# Altium footprint library Diodes.PcbLib: 5 footprints
Each footprint in its own frame and in the unit in brackets; x right, y up, seen from the top. Pads: shape width x height; smd on the part's side, far side on the other; paste and mask are expansions set on the pad; w line width, h text height; cw(c..) or ccw(c..) is an arc to the next point about the centre after c.
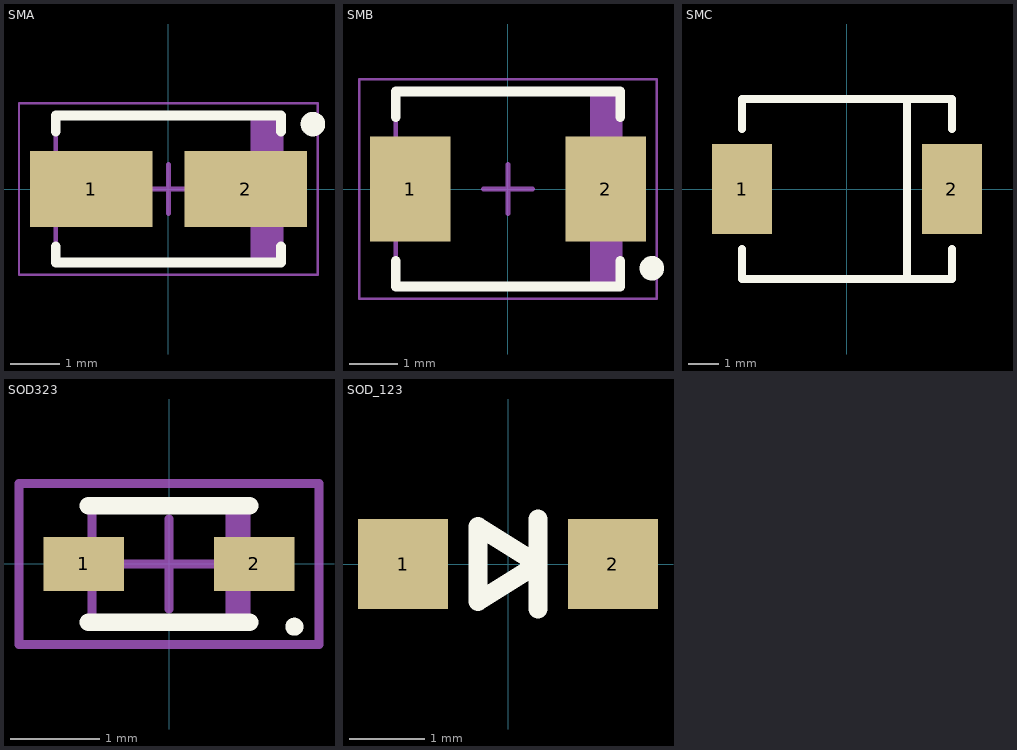
[diagram p0: the footprints below, top view; thin cyan lines are the x and y axes]

## SMA [mm] "Molded Diode, 2-Leads, Body 4.30x2.61mm, IPC Medium Density"
height 2
pads (2):
  rect 2.5x1.55 smd: 1(-1.575,0) 2(1.575,0)
Top Overlay:
  circle w0.25: c2.95,1.325 r0.125
  lines w0.2: -2.3,-1.175 -2.3,-1.5 2.3,-1.5 2.3,-1.175 ; -2.3,1.175 -2.3,1.5 2.3,1.5 2.3,1.175
Mechanical 13:
  rectangle: 1.681,-1.46 2.3,1.46
  lines w0.1: -2.3,-1.46 -2.3,1.46 2.3,1.46 2.3,-1.46 -2.3,-1.46
Mechanical 15:
  lines w0.05: -3.05,-1.75 -3.05,1.75 3.05,1.75 3.05,-1.75 -3.05,-1.75
  lines w0.1: -0.5,0 0.5,0 ; 0,-0.5 0,0.5
3D body "User Library-DO-214AC SMA.step": height 1, standoff -1.4, extent -2.6,-1.3 2.6,1.3

## SMB [mm] "Molded Diode, 2-Leads, Body 4,32x3,63mm, IPC Medium Density"
height 2.65
pads (2):
  rect 1.65x2.15 smd: 1(-2,0) 2(2,0)
Top Overlay:
  circle w0.25: c2.95,-1.625 r0.125
  lines w0.2: -2.3,-1.475 -2.3,-2 2.3,-2 2.3,-1.475 ; -2.3,1.475 -2.3,2 2.3,2 2.3,1.475
Mechanical 13:
  region: 2.3,1.975 1.681,1.975 1.681,-1.975 2.3,-1.975
  lines w0.1: -2.3,-1.975 -2.3,1.975 2.3,1.975 2.3,-1.975 -2.3,-1.975
Mechanical 15:
  lines w0.05: -3.05,-2.25 -3.05,2.25 3.05,2.25 3.05,-2.25 -3.05,-2.25
  lines w0.1: -0.5,0 0.5,0 ; 0,-0.5 0,0.5
3D body "User Library-DO-214AA_SMB.step": height 2.2, standoff -0.05, extent -2.65,-1.85 2.65,1.85

## SMC [mm]
pads (2):
  rect 2x3 smd: 1(-3.5,0) 2(3.5,0)
Top Overlay:
  lines w0.254: -3.5,-2 -3.5,-3 3.5,-3 3.5,-2 ; -3.5,2 -3.5,3 3.5,3 3.5,2 ; 2,3 2,-3 2.1,-3
3D body "SW3DPS-SMC-DEFAULT.STEP": height 2.8, standoff 0, extent -3.809,-3.12 3.809,3.1

## SOD323 [mm] "Molded Diode, 2-Leads, Body 1,70x1,26mm, IPC Medium Density"
height 1.1
pads (2):
  rect 0.9x0.6 smd: 1(-0.95,0) 2(0.95,0)
Top Overlay:
  circle w0.1: c1.4,-0.7 r0.05
  lines w0.2: -0.9,-0.65 0.9,-0.65 ; -0.9,0.65 0.9,0.65
Mechanical 13:
  region: 0.86,0.635 0.629,0.635 0.629,-0.635 0.86,-0.635
  lines w0.1: -0.86,-0.635 0.86,-0.635 0.86,0.635 -0.86,0.635 -0.86,-0.635
Mechanical 15:
  lines w0.1: -0.5,0 0.5,0 ; 0,-0.5 0,0.5 ; -1.675,-0.9 -1.675,0.9 1.675,0.9 1.675,-0.9 -1.675,-0.9
3D body "User Library-SOD323-1 (2).step": height 1.1, standoff 0, extent -1.3,-0.675 1.3,0.675

## SOD_123 [mm]
height 1
pads (2):
  rect 1.2x1.2 smd: 1(-1.4,0) 2(1.4,0)
Top Overlay:
  lines w0.254: 0.4,-0.6 0.4,0.6 0.4,0 ; 0.4,0 -0.4,-0.5 -0.4,0.5 0.4,0
3D body "SOD_123.STEP": height 1.27, standoff 0, extent -1.85,-0.8 1.85,0.8